# Altium footprint library PcbLib1.PcbLib: 4 footprints
Each footprint in its own frame and in the unit in brackets; x right, y up, seen from the top. Pads: shape width x height; smd on the part's side, far side on the other; paste and mask are expansions set on the pad; w line width, h text height; cw(c..) or ccw(c..) is an arc to the next point about the centre after c.
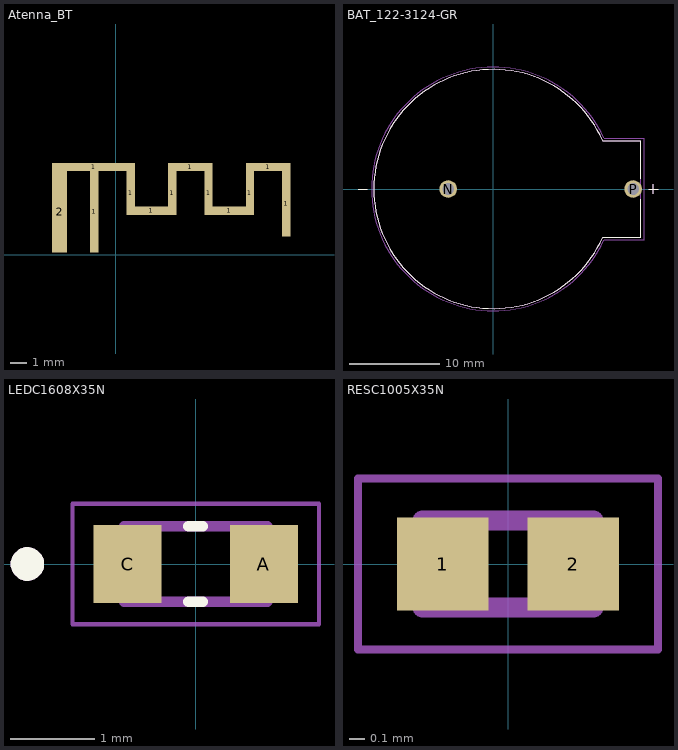
[diagram p0: the footprints below, top view; thin cyan lines are the x and y axes]

## Atenna_BT [mm] "2.4 GHz"
pads (12):
  rect 5x0.5 smd mask+0: 1(-1.34,5.292)
  rect 0.5x4.9 smd mask+0: 1(-1.291,2.592)
  rect 0.5x2.64 smd mask+0: 1(0.91,3.722) 1(3.41,3.722) 1(5.61,3.722) 1(8.11,3.722)
  rect 2x0.5 smd mask+0: 1(2.16,2.652) 1(6.86,2.652)
  rect 2.7x0.5 smd mask+0: 1(4.51,5.292) 1(9.21,5.292)
  rect 0.5x3.94 smd mask+0: 1(10.31,3.071)
  rect 0.9x4.9 smd paste+0 mask+0: 2(-3.39,2.592)

## BAT_122-3124-GR [mm]
height 12
pads (2):
  round 1.95 hole 1.3 mask+0.05: N(-5,0) P(15.5,0)
Top Overlay:
  lines w0.127: -15,0 -14,0 ; 12.107,-5.39 cw(c0.001,0) 12.107,5.39 ; 12.125,-5.35 16.35,-5.35 16.35,-1.15 ; 12.125,5.35 16.35,5.35 16.35,1.15 ; 17.25,0 18.25,0 ; 17.75,-0.5 17.75,0.5
Mechanical 13:
  lines w0.127: -15,0 -14,0 ; 12.107,-5.39 cw(c0.001,0) 12.107,5.39 ; 12.125,-5.35 16.35,-5.35 16.35,5.35 12.125,5.35 ; 17.25,0 18.25,0 ; 17.75,-0.5 17.75,0.5
Mechanical 15:
  lines w0.05: 12.238,-5.706 cw(c0.002,0) 12.238,5.706 ; 12.287,-5.6 16.728,-5.6 16.728,5.6 12.287,5.6

## LEDC1608X35N [mm]
pads (2):
  rect 0.81x0.93 smd: A(0.81,0) C(-0.81,0)
Top Overlay:
  circle w0.2: c-2,0 r0.1
  lines w0.127: -0.085,-0.45 0.085,-0.45 ; -0.085,0.45 0.085,0.45
Mechanical 13:
  circle w0.2: c-2,0 r0.1
  lines w0.127: -0.85,-0.45 -0.85,0.45 0.85,0.45 0.85,-0.45 -0.85,-0.45
Mechanical 15:
  lines w0.05: -1.465,-0.715 -1.465,0.715 1.465,0.715 1.465,-0.715 -1.465,-0.715
3D body "step_temp.STEP": height 0.8, standoff 0, extent -0.8,-0.4 0.8,0.4

## RESC1005X35N [mm]
pads (2):
  rect 0.59x0.6 smd: 1(-0.42,0) 2(0.42,0)
Mechanical 13:
  lines w0.127: -0.55,-0.28 -0.55,0.28 0.55,0.28 0.55,-0.28 -0.55,-0.28
Mechanical 15:
  lines w0.05: -0.965,-0.55 -0.965,0.55 0.965,0.55 0.965,-0.55 -0.965,-0.55
3D body "RMCF0402FT220R.STEP": height 0.4, standoff 0, extent -0.5,-0.25 0.5,0.25